# Altium footprint library robot_eseo.PcbLib: 96 footprints (part 4 of 6)
Each footprint in its own frame and in the unit in brackets; x right, y up, seen from the top. Pads: shape width x height; smd on the part's side, far side on the other; paste and mask are expansions set on the pad; w line width, h text height; cw(c..) or ccw(c..) is an arc to the next point about the centre after c.
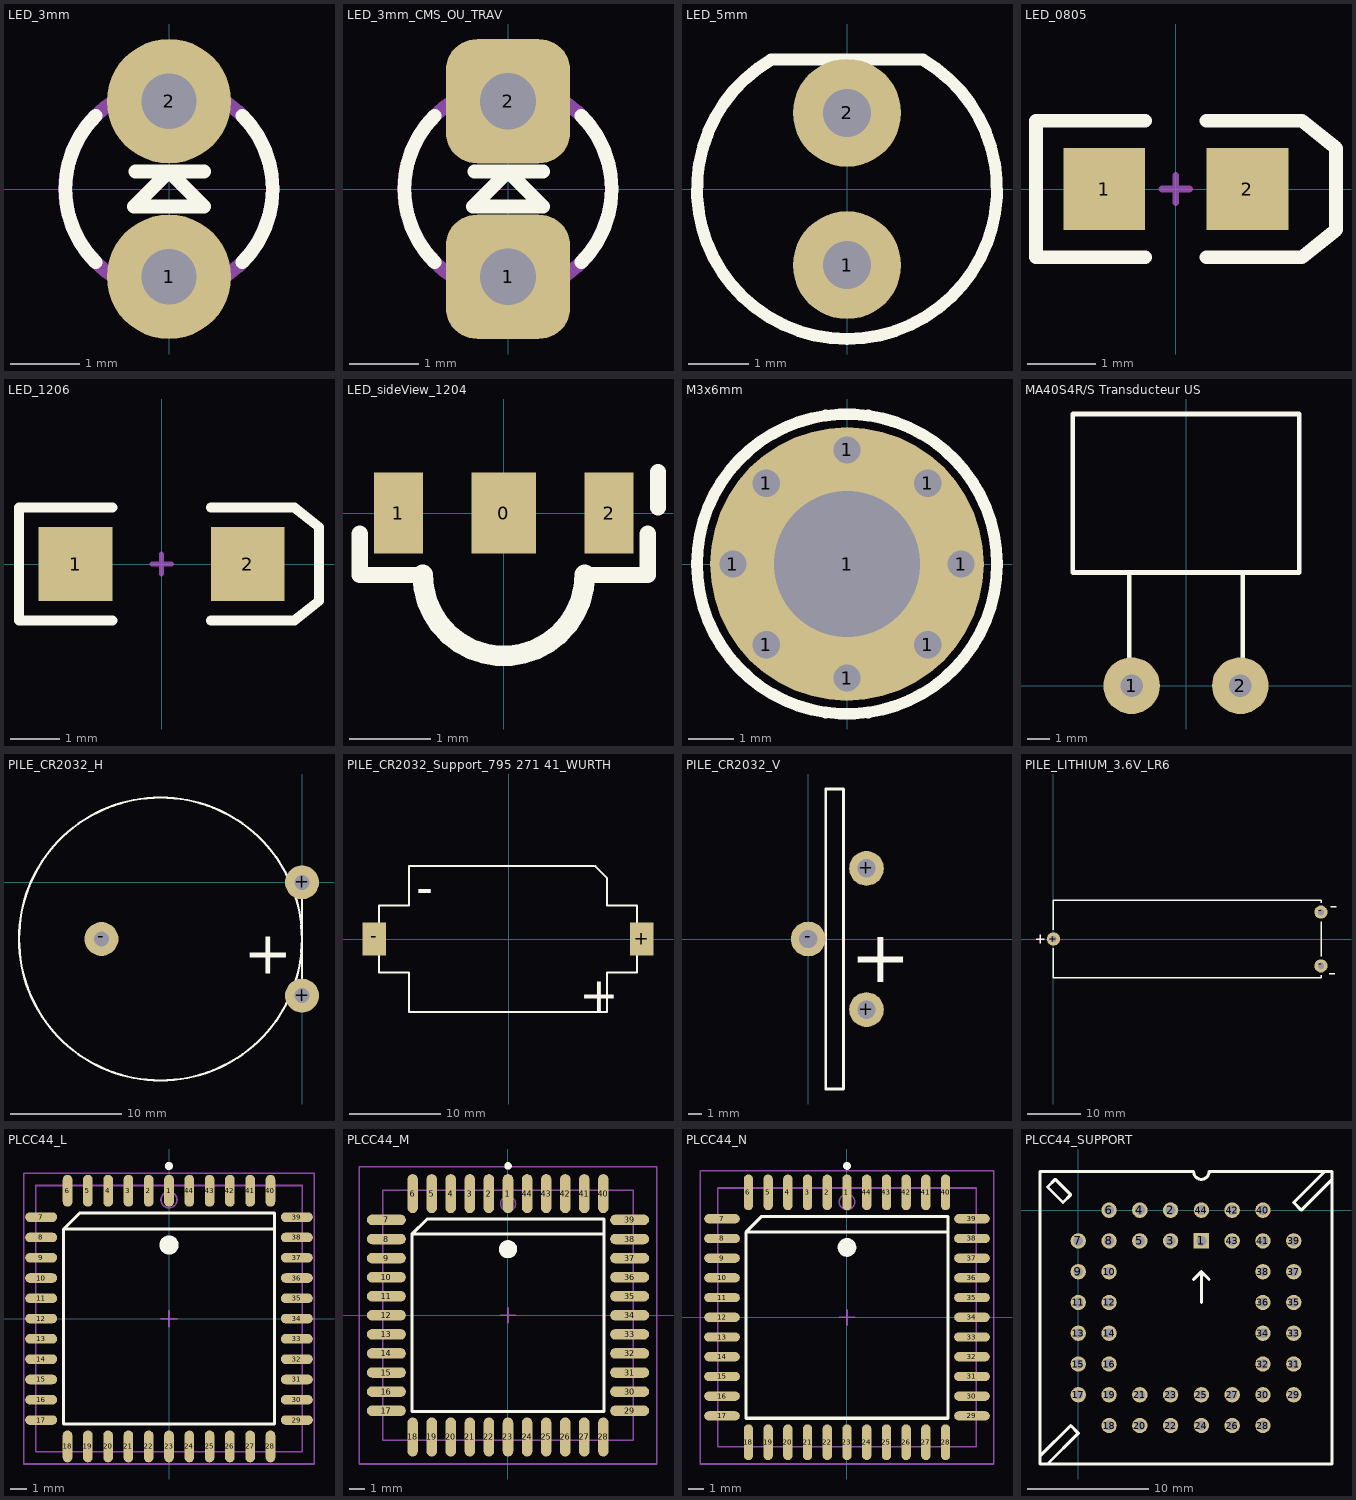
[diagram p3: the footprints below, top view; thin cyan lines are the x and y axes]

## LED_3mm [mm] "LED 3mm; 2 Leads"
height 8
pads (2):
  round 1.8 hole 0.8: 1(0,-1.27) 2(0,1.27)
Top Overlay:
  lines w0.2: -1.061,-1.061 cw(c0,0) -1.061,1.061 ; -0.484,0.254 0.508,0.254 ; 1.061,-1.061 ccw(c0,0) 1.061,1.061 ; -0.508,-0.254 0.508,-0.254 0,0.254 -0.508,-0.254
Mechanical 13:
  circle w0.2: c0,0 r1.5
3D body "LED3VERTE.step": height 5.51, standoff -2.49, extent -1.638,-1.65 1.651,1.65
3D body: height 5, standoff 0, extent -1.499,-1.499 1.499,1.499

## LED_3mm_CMS_OU_TRAV [mm] "LED 3mm; 2 Leads"
height 8
pads (2):
  rrect50% 1.8x1.8 hole 0.813: 1(0,-1.27) 2(0,1.27)
Top Overlay:
  lines w0.2: -1.061,-1.061 cw(c0,0) -1.061,1.061 ; -0.484,0.254 0.508,0.254 ; 1.061,-1.061 ccw(c0,0) 1.061,1.061 ; -0.508,-0.254 0,0.254 0.508,-0.254 -0.508,-0.254
Mechanical 13:
  circle w0.2: c0,0 r1.5
3D body "LED3VERTE.step": height 5.51, standoff -2.49, extent -1.638,-1.65 1.651,1.65
3D body: height 5, standoff 0, extent -1.507,-1.507 1.507,1.507

## LED_5mm [mm] "LED 5mm; 2 Leads"
height 8
pads (2):
  round 1.8 hole 0.8: 1(0,-1.27) 2(0,1.27)
Top Overlay:
  lines w0.2: -1.27,2.159 1.27,2.159 ; -1.268,2.155 ccw(c0,0) 1.268,2.155
3D body: height 8, standoff 0, extent -2.499,-2.499 2.499,2.499
3D body "LED5VERTE.step": height 12.31, standoff -2.49, extent -3.022,-2.989 2.997,2.431

## LED_0805 [mm] "SM LED; 2 Flat Leads"
height 1.2
pads (2):
  rect 1.2x1.2 smd: 1(-1.05,0) 2(1.05,0)
Top Overlay:
  lines w0.2: -0.45,-1 -2.05,-1 -2.05,1 -0.45,1 ; 0.45,-1 1.85,-1 2.35,-0.6 2.35,0.6 1.85,1 0.45,1
Mechanical 1:
  lines w0.1: -0.2,0 0.2,0 ; 0,-0.2 0,0.2
3D body: height 1.2, standoff 0, extent -1.054,-0.635 1.054,0.635
3D body "LED_0805.step": height 0.85, standoff 0.01, extent -1.006,-0.457 1.057,0.449

## LED_1206 [mm] "SM LED; 2 Flat Leads"
height 1.2
pads (2):
  rect 1.5x1.5 smd: 1(-1.75,0) 2(1.75,0)
Top Overlay:
  lines w0.2: -1,-1.15 -2.9,-1.15 -2.9,1.15 -1,1.15 ; 1,-1.15 2.7,-1.15 3.2,-0.75 3.2,0.75 2.7,1.15 1,1.15
Mechanical 1:
  lines w0.1: -0.2,0 0.2,0 ; 0,-0.2 0,0.2
3D body "LED1206CLAIRE.step": height 1.36, standoff 0.01, extent -1.625,-0.725 1.675,0.725

## LED_sideView_1204 [mm] "SM LED; 2 Flat Leads"
height 1.2
pads (3):
  rect 0.8x1 smd: 0(0,0)
  rect 0.6x1 smd: 1(-1.3,0) 2(1.3,0)
Top Overlay:
  lines w0.2: -1.778,-0.254 -1.778,-0.762 -1.016,-0.762 ; 1.016,-0.762 1.778,-0.762 1.778,-0.254 ; 1.905,0.07 1.905,0.508
  lines w0.254: -1,-0.762 ccw(c0,-0.762) 1,-0.762
Mechanical 1:
  lines w0.1: -0.2,0 0.2,0 ; 0,-0.2 0,0.2
3D body: height 1.2, standoff 0, extent -1.054,-0.635 1.054,0.635
3D body "WURTH_LED_side_view_WL-SMSW_1204.stp": height 1, standoff 0, extent -1.6,-1.651 1.6,-0.166

## M3x6mm [mm] "Vis M3 X 6mm _TORX_T�te 6mm"
pads (9):
  round 0.8 hole 0.6: 1(-2.5,0) 1(-1.768,-1.768) 1(-1.768,1.768) 1(0,-2.5) 1(0,2.5) 1(1.768,-1.768) 1(1.768,1.768) 1(2.5,0)
  round 6 hole 3.2: 1(0,0)
Top Overlay:
  circle w0.254: c0,0 r3.288
Mechanical 15:
  lines w0.2: -2.1,0 2.1,0 ; 0,-2.1 0,2.1
3D body "Vis M3x6 TF_mattssons.step": height 1.67, standoff -5.98, extent -2.845,-2.85 2.855,2.85

## MA40S4R/S Transducteur US [mm]
height 0.01
pads (2):
  round 2.54 hole 1.016: 1(-2.44,0) 2(2.44,0)
Top Overlay:
  lines w0.203: -2.54,-1.016 -2.54,5.08 ; 2.54,-1.016 2.54,5.08 ; -5.08,5.08 -5.08,12.192 5.08,12.192 5.08,5.08 -5.08,5.08

## PILE_CR2032_H [mil] "Pile Lithium; CR2032; Horizontal; Fix:18mm/10.16mm"
height 196.85
pads (3):
  round 120 hole 52: +(0,-400) +(0,0) -(-708.66,-200)
Top Overlay:
  lines w8: 0,-350 0,-50 ; -1000,-200 cw(c-500,-200) -500,300 cw(c-500,-200) 0,-200 cw(c-500,-200) -500,-700 cw(c-500,-200) -1000,-200
  text "+" at -205.55,-322.5 h150
Mechanical 1:
  text "+" at -205.55,-322.5 h150

## PILE_CR2032_Support_795 271 41_WURTH [mm]
height 6
pads (2):
  rect 2.6x3.6 all layers, no hole: +(14.605,0) -(-14.732,0)
Top Overlay:
  lines w0.203: -14.224,-3.683 -10.922,-3.683 -10.922,-8.001 10.795,-8.001 10.795,-3.683 14.097,-3.683 ; -14.224,-3.556 -14.224,3.556 ; -14.224,3.683 -10.922,3.683 -10.922,8.001 9.398,8.001 ; 9.525,8.001 10.795,6.731 10.795,3.683 14.097,3.683 ; 14.097,-3.556 14.097,3.556
  text "+" at 7.747,-8.001 h3.81
  text "-" at -10.16,3.81 h3.81
3D body "Support_Pile_Wurth79527141.stp": height 5.5, standoff -0.15, extent -15.95,-8 15.95,8

## PILE_CR2032_V [mil] "Pile Lithium; CR2032; Vertical; 10X4.2mm:Fix; Diameter:21.5"
height 984.25
pads (3):
  round 98.43 hole 52: +(165.35,-200) +(165.35,200) -(0,0)
Top Overlay:
  lines w8: 50,-425 50,425 100,425 100,-425 50,-425
  text "+" at 119.45,-122.5 h150

## PILE_LITHIUM_3.6V_LR6 [mm] "Lithium SL760/pr; 50.5mm/14.7mm; Pad Spacing=50.5mm/10.16mm"
height 15.5
pads (3):
  round 2.5 hole 1.2: +(0,0) -(50.5,-5.08) -(50.5,5.08)
Top Overlay:
  lines w0.254: -3.302,0 -1.778,0 ; -2.54,-0.762 -2.54,0.762 ; 0,-1.778 0,-7.35 50.546,-7.35 50.546,-7.112 50.546,-6.858 ; 0,1.778 0,7.35 50.546,7.35 50.546,6.858 ; 50.546,-3.302 50.546,3.302 ; 52.07,-6.604 53.086,-6.604 ; 52.324,6.096 53.34,6.096

## PLCC44_L [mm] "44-Pin Plastic J-Lead Chip Carrier (PLCC44), IPC High Density"
height 4.58
pads (44):
  oval 0.6x2 smd: 1(0,8) 2(-1.27,8) 3(-2.54,8) 4(-3.81,8) 5(-5.08,8) 6(-6.35,8) 18(-6.35,-8) 19(-5.08,-8) 20(-3.81,-8) 21(-2.54,-8) 22(-1.27,-8) 23(0,-8) 24(1.27,-8) 25(2.54,-8) 26(3.81,-8) 27(5.08,-8) 28(6.35,-8) 40(6.35,8) 41(5.08,8) 42(3.81,8) 43(2.54,8) 44(1.27,8)
  oval 2x0.6 smd: 7(-8,6.35) 8(-8,5.08) 9(-8,3.81) 10(-8,2.54) 11(-8,1.27) 12(-8,0) 13(-8,-1.27) 14(-8,-2.54) 15(-8,-3.81) 16(-8,-5.08) 17(-8,-6.35) 29(8,-6.35) 30(8,-5.08) 31(8,-3.81) 32(8,-2.54) 33(8,-1.27) 34(8,0) 35(8,1.27) 36(8,2.54) 37(8,3.81) 38(8,5.08) 39(8,6.35)
Top Overlay:
  circle w0.6: c0,4.6 r0.3
  circle w0.25: c0,9.55 r0.125
  lines w0.2: 6.6,5.6 -6.6,5.6 ; -6.6,5.6 -6.6,-6.6 6.6,-6.6 6.6,6.6 -5.6,6.6 -6.6,5.6
Mechanical 13:
  circle w0.1: c0,7.43 r0.5
  lines w0.1: -8.33,-8.33 8.33,-8.33 8.33,8.33 -8.33,8.33 -8.33,-8.33
Mechanical 15:
  lines w0.1: -0.5,0 0.5,0 ; 0,-0.5 0,0.5 ; -9.1,-9.1 9.1,-9.1 9.1,9.1 -9.1,9.1 -9.1,-9.1
3D body: height 4.58, standoff 0, extent -8.33,-8.33 8.33,8.33

## PLCC44_M [mm] "44-Pin Plastic J-Lead Chip Carrier (PLCC44), IPC Low Density"
height 4.58
pads (44):
  oval 0.7x2.6 smd: 1(0,8.1) 2(-1.27,8.1) 3(-2.54,8.1) 4(-3.81,8.1) 5(-5.08,8.1) 6(-6.35,8.1) 18(-6.35,-8.1) 19(-5.08,-8.1) 20(-3.81,-8.1) 21(-2.54,-8.1) 22(-1.27,-8.1) 23(0,-8.1) 24(1.27,-8.1) 25(2.54,-8.1) 26(3.81,-8.1) 27(5.08,-8.1) 28(6.35,-8.1) 40(6.35,8.1) 41(5.08,8.1) 42(3.81,8.1) 43(2.54,8.1) 44(1.27,8.1)
  oval 2.6x0.7 smd: 7(-8.1,6.35) 8(-8.1,5.08) 9(-8.1,3.81) 10(-8.1,2.54) 11(-8.1,1.27) 12(-8.1,0) 13(-8.1,-1.27) 14(-8.1,-2.54) 15(-8.1,-3.81) 16(-8.1,-5.08) 17(-8.1,-6.35) 29(8.1,-6.35) 30(8.1,-5.08) 31(8.1,-3.81) 32(8.1,-2.54) 33(8.1,-1.27) 34(8.1,0) 35(8.1,1.27) 36(8.1,2.54) 37(8.1,3.81) 38(8.1,5.08) 39(8.1,6.35)
Top Overlay:
  circle w0.25: c0,9.95 r0.125
  circle w0.6: c0,4.4 r0.3
  lines w0.2: 6.4,5.4 -6.4,5.4 ; -6.4,5.4 -5.4,6.4 6.4,6.4 6.4,-6.4 -6.4,-6.4 -6.4,5.4
Mechanical 13:
  circle w0.1: c0,7.43 r0.5
  lines w0.1: -8.33,-8.33 -8.33,8.33 8.33,8.33 8.33,-8.33 -8.33,-8.33
Mechanical 15:
  lines w0.1: -0.5,0 0.5,0 ; 0,-0.5 0,0.5 ; -9.9,-9.9 -9.9,9.9 9.9,9.9 9.9,-9.9 -9.9,-9.9
3D body: height 4.58, standoff 0, extent -8.33,-8.33 8.33,8.33

## PLCC44_N [mm] "44-Pin Plastic J-Lead Chip Carrier (PLCC44), IPC Medium Density"
height 4.58
pads (44):
  oval 0.6x2.3 smd: 1(0,8.05) 2(-1.27,8.05) 3(-2.54,8.05) 4(-3.81,8.05) 5(-5.08,8.05) 6(-6.35,8.05) 18(-6.35,-8.05) 19(-5.08,-8.05) 20(-3.81,-8.05) 21(-2.54,-8.05) 22(-1.27,-8.05) 23(0,-8.05) 24(1.27,-8.05) 25(2.54,-8.05) 26(3.81,-8.05) 27(5.08,-8.05) 28(6.35,-8.05) 40(6.35,8.05) 41(5.08,8.05) 42(3.81,8.05) 43(2.54,8.05) 44(1.27,8.05)
  oval 2.3x0.6 smd: 7(-8.05,6.35) 8(-8.05,5.08) 9(-8.05,3.81) 10(-8.05,2.54) 11(-8.05,1.27) 12(-8.05,0) 13(-8.05,-1.27) 14(-8.05,-2.54) 15(-8.05,-3.81) 16(-8.05,-5.08) 17(-8.05,-6.35) 29(8.05,-6.35) 30(8.05,-5.08) 31(8.05,-3.81) 32(8.05,-2.54) 33(8.05,-1.27) 34(8.05,0) 35(8.05,1.27) 36(8.05,2.54) 37(8.05,3.81) 38(8.05,5.08) 39(8.05,6.35)
Top Overlay:
  circle w0.6: c0,4.5 r0.3
  circle w0.25: c0,9.75 r0.125
  lines w0.2: 6.5,5.5 -6.5,5.5 ; -6.5,5.5 -6.5,-6.5 6.5,-6.5 6.5,6.5 -5.5,6.5 -6.5,5.5
Mechanical 13:
  circle w0.1: c0,7.43 r0.5
  lines w0.1: -8.33,-8.33 8.33,-8.33 8.33,8.33 -8.33,8.33 -8.33,-8.33
Mechanical 15:
  lines w0.1: -0.5,0 0.5,0 ; 0,-0.5 0,0.5 ; -9.45,-9.45 9.45,-9.45 9.45,9.45 -9.45,9.45 -9.45,-9.45
3D body: height 4.58, standoff 0, extent -8.33,-8.33 8.33,8.33

## PLCC44_SUPPORT [mil]
pads (44):
  rect 50x50 hole 32: 1(400,-100)
  round 50 hole 32: 2(300,0) 3(300,-100) 4(200,0) 5(200,-100) 6(100,0) 7(0,-100) 8(100,-100) 9(0,-200) 10(100,-200) 11(0,-300) 12(100,-300) 13(0,-400) 14(100,-400) 15(0,-500) 16(100,-500) 17(0,-600) 18(100,-700) 19(100,-600) 20(200,-700) 21(200,-600) 22(300,-700) 23(300,-600) 24(400,-700) 25(400,-600) 26(500,-700) 27(500,-600) 28(600,-700) 29(700,-600) 30(600,-600) 31(700,-500) 32(600,-500) 33(700,-400) 34(600,-400) 35(700,-300) 36(600,-300) 37(700,-200) 38(600,-200) 39(700,-100) 40(600,0) 41(600,-100) 42(500,0) 43(500,-100) 44(400,0)
Top Overlay:
  lines w10: -125,-800 -25,-700 0,-725 -100,-825 ; 375,-225 400,-200 ; 400,-300 400,-200 ; 425,-225 400,-200 ; 800,125 700,25 725,0 825,100 ; -125,-825 -125,125 375,125 ccw(c400,125) 425,125 825,125 825,-825 -125,-825 ; -100,75 -75,100 -25,50 -50,25 -100,75